# Altium footprint library Antennas.PcbLib: 8 footprints
Each footprint in its own frame and in the unit in brackets; x right, y up, seen from the top. Pads: shape width x height; smd on the part's side, far side on the other; paste and mask are expansions set on the pad; w line width, h text height; cw(c..) or ccw(c..) is an arc to the next point about the centre after c.
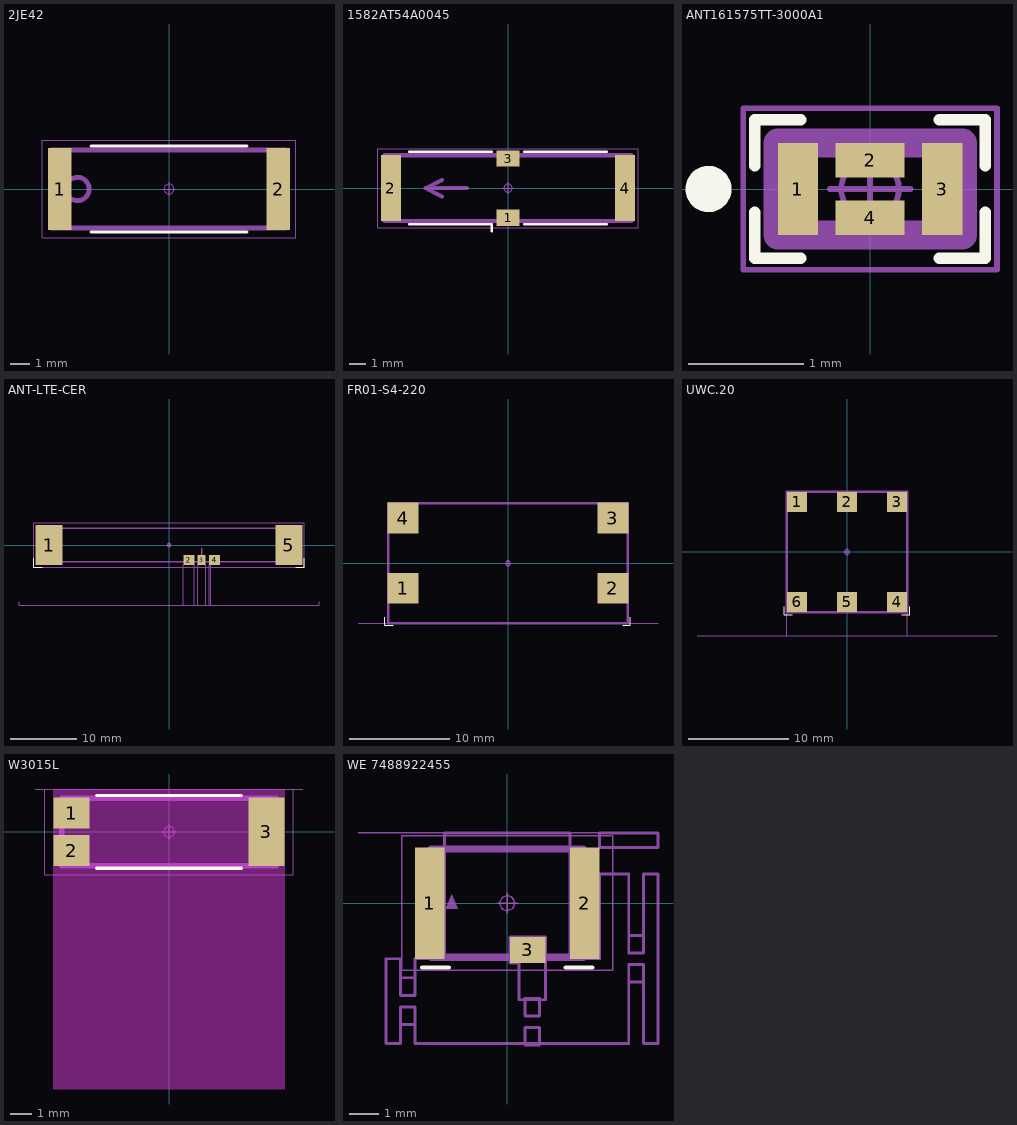
[diagram p0: the footprints below, top view; thin cyan lines are the x and y axes]

## 2JE42 [mm] "915 MHz ISM Surface Mount"
height 1.6
pads (2):
  rect 1.2x4.2 smd: 1(-5.6,0) 2(5.6,0)
Top Overlay:
  lines w0.15: -4,-2.2 4,-2.2 ; -4,2.2 4,2.2
Top Assembly:
  circle w0.25: c-4.7,0 r0.6
  lines w0.25: -6,-2 6,-2 6,2 -6,2 -6,-2
  text ".Designator" at -3.378,-0.339 h1.5
Top Courtyard:
  circle w0.05: c0,0 r0.25
  lines w0.05: -0.35,0 0.35,0 ; 0,-0.35 0,0.35 ; -6.5,-2.5 6.5,-2.5 6.5,2.5 -6.5,2.5 -6.5,-2.5
3D body "2JE42.STEP": height 1.6, standoff 0, extent -6,-2 6,2

## 1582AT54A0045 [mm] "Johanson Technology chip antenna 1582AT54A0045"
height 3.2
pads (4):
  rect 1.4x1 smd: 1(0,-1.8) 3(0,1.8)
  rect 1.2x4 smd: 2(-7.1,0) 4(7.1,0)
Top Overlay:
  lines w0.15: -6,-2.2 -1,-2.2 -1,-2.6 ; -6,2.2 -1,2.2 ; 1,-2.2 6,-2.2 ; 1,2.2 6,2.2
Top Assembly:
  lines w0.25: -4,-0.5 -5,0 ; -4,0.5 -5,0 ; -2.5,0 -5,0 ; -7.5,-2 7.5,-2 7.5,2 -7.5,2 -7.5,-2
  text ".Designator" at -2,-0.518 h1.5
Top Courtyard:
  circle w0.05: c0,0 r0.25
  lines w0.05: -0.35,0 0.35,0 ; 0,-0.35 0,0.35 ; -7.9,-2.4 -7.9,2.4 7.9,2.4 7.9,-2.4 -7.9,-2.4
3D body "1582AT54A0045.STEP": height 3.35, standoff 0, extent -7.55,-2.05 7.55,2.05

## ANT161575TT-3000A1 [mm] "Multilayer Antenna (Triple Band type) for 1574-1577MHz / 2400-2484MHz / 5150-5850MHz"
height 0.4
pads (4):
  rect 0.35x0.8 smd: 1(-0.625,0) 3(0.625,0)
  rect 0.6x0.3 smd: 2(0,0.25) 4(0,-0.25)
Top Overlay:
  circle w0.2: c-1.4,0 r0.1
  lines w0.1: -1,-0.2 -1,-0.6 -0.6,-0.6 ; -1,0.2 -1,0.6 -0.6,0.6 ; 0.6,-0.6 1,-0.6 1,-0.2 ; 0.6,0.6 1,0.6 1,0.2
Top Assembly:
  lines w0.25: -0.8,-0.4 -0.8,0.4 0.8,0.4 0.8,-0.4 -0.8,-0.4
  text ".Designator" at -1.075,0.725 h1
Top Courtyard:
  circle w0.05: c0,0 r0.25
  lines w0.05: -0.35,0 0.35,0 ; 0,-0.35 0,0.35 ; -1.1,-0.7 1.1,-0.7 1.1,0.7 -1.1,0.7 -1.1,-0.7
3D body "ANT161575TT-3000A1.STEP": height 0.4, standoff 0, extent -0.8,-0.4 0.8,0.4

## ANT-LTE-CER [mm] "Linx ANT-LTE-CER"
height 5
pads (5):
  rect 4x6 smd: 1(-18,0) 5(18,0)
  rect 1.65x1.5 smd: 2(2.975,-2.25) 4(6.825,-2.25)
  rect 1.2x1.5 smd: 3(4.9,-2.25)
Top Overlay:
  lines w0.1: -20.3,-2 -20.3,-3.3 -19,-3.3 ; 19,-3.3 20.3,-3.3 20.3,-2
Top Assembly:
  lines w0.25: 4.6,-1.7 4.9,-2.5 ; 4.9,-0.5 4.9,-2.5 ; 5.2,-1.7 4.9,-2.5 ; -18.5,-2.5 18.5,-2.5 18.5,2.5 -18.5,2.5 -18.5,-2.5
  text ".Designator" at -2.55,-0.325 h1.5
Top Courtyard:
  circle w0.05: c0,0 r0.25
  lines w0.05: -22.5,-8.5 -22.5,-9 22.5,-9 22.5,-8.5 ; -0.35,0 0.35,0 ; 0,-0.35 0,0.35 ; 2.15,-9 2.15,-3 ; 3.8,-9 3.8,-3 ; 4.3,-9 4.3,-3 ; 5.5,-9 5.5,-3 ; 6,-9 6,-3 ; 6.3,-9 6.3,-3 ; -20.3,-3.3 -20.3,3.3 20.3,3.3 20.3,-3.3 -20.3,-3.3
3D body "ANT-LTE-CER.STEP": height 5, standoff 0, extent -18.5,-2.5 18.5,2.5

## FR01-S4-220 [mm] "ALL mXTEND FR01-S4-220"
height 2
pads (4):
  rect 3.1x3.1 smd: 1(-10.5,-2.5) 2(10.5,-2.5) 3(10.5,4.5) 4(-10.5,4.5)
Top Overlay:
  lines w0.1: -12.3,-5.4 -12.3,-6.2 -11.5,-6.2 ; 11.5,-6.2 12.2,-6.2 12.2,-5.4
Top Assembly:
  lines w0.25: -12,-6 12,-6 12,6 -12,6 -12,-6
  text ".Designator" at -1.6,-0.275 h1.5
Top Courtyard:
  circle w0.05: c0,0 r0.25
  lines w0.05: -15,-6 15,-6 ; -0.35,0 0.35,0 ; 0,-0.35 0,0.35
3D body "FR01-S4-220.STEP": height 2.05, standoff 0, extent -12,-6 12,6

## UWC.20 [mm] "Taoglas Chip-antenna 12mm x 12mm x 3.3mm, GND plane offset 2.4 mm"
height 3.3
pads (6):
  rect 2x2 smd: 1(-5,5) 2(0,5) 3(5,5) 4(5,-5) 5(0,-5) 6(-5,-5)
Top Overlay:
  lines w0.1: -6.3,-5.5 -6.3,-6.3 -5.5,-6.3 ; 5.5,-6.3 6.3,-6.3 6.3,-5.5
Top Assembly:
  lines w0.25: -6,-6 6,-6 6,6 -6,6 -6,-6
  text ".Designator" at -2,0 h1.5
Top Courtyard:
  circle w0.05: c0,0 r0.25
  lines w0.05: -15,-8.4 15,-8.4 ; -6,-8.4 -6,6 6,6 6,-8.4 ; -0.35,0 0.35,0 ; 0,-0.35 0,0.35
3D body "UWC.20.STEP": height 3.25, standoff 0, extent -6,-6 6,6

## W3015L [mm] "Pulse Chip Antenna 3.15 mm X 10 mm X 4 mm"
height 4
pads (3):
  rect 1.7x1.45 smd: 1(-4.55,0.875) 2(-4.55,-0.875)
  rect 1.7x3.2 smd: 3(4.55,0)
Top Overlay:
  lines w0.15: -3.375,-1.7 3.375,-1.7 ; -3.375,1.7 3.375,1.7
Keep-Out Layer:
  region: -5.4,-12 -5.4,2 5.4,2 5.4,-12
Top Assembly:
  lines w0.25: -5,-1.575 5,-1.575 5,1.575 -5,1.575 -5,-1.575
  text ".Designator" at -3.1,-0.118 h1.5
Top Courtyard:
  circle w0.05: c0,0 r0.25
  lines w0.05: -0.35,0 0.35,0 ; 0,-0.35 0,0.35 ; -6.25,2 -5.8,2 ; -6.25,2 -6.25,2 ; -5.8,2 5.8,2 ; -5.8,2 -5.8,-2 5.8,-2 5.8,2 ; 5.8,2 6.25,2 ; 6.25,2 6.25,2
3D body "W3015L.STEP": height 4, standoff 0, extent -5,-1.575 5,1.575

## WE 7488922455 [mm] "WE-MCA Multilayer Chip Antenna"
pads (3):
  rect 1x3.8 smd: 1(-2.65,0) 2(2.65,0)
  rect 1.2x0.9 smd: 3(0.7,-1.6)
Top Overlay:
  lines w0.15: -2.9,-2.2 -2,-2.2 ; 2,-2.2 2.9,-2.2
Top Assembly:
  region: -2.1,-0.2 -1.9,0.3 -1.7,-0.2
  lines w0.25: -2.6,-1.85 2.6,-1.85 2.6,1.85 -2.6,1.85 -2.6,-1.85
  text ".Designator" at -3.378,-0.339 h1.5
Top Courtyard:
  circle w0.05: c0,0 r0.25
  lines w0.05: -5.1,2.4 5.1,2.4 ; -0.35,0 0.35,0 ; 0,-0.35 0,0.35 ; -3.6,-2.3 3.6,-2.3 3.6,2.3 -3.6,2.3 -3.6,-2.3
AntennaClearance:
  lines w0.1: -3.65,-4.15 -3.65,-3.55 -3.15,-3.55 -3.15,-4.15 ; -3.65,-4.15 -3.65,-4.8 -4.15,-4.8 -4.15,-1.9 -3.65,-1.9 -3.65,-2.55 ; -3.65,-4.15 -3.15,-4.15 ; -3.65,-2.55 -3.15,-2.55 ; -3.65,-2.55 -3.65,-3.15 -3.15,-3.15 -3.15,-2.55 ; -3.15,-4.15 -3.15,-4.8 4.15,-4.8 4.15,-2.7 ; -3.15,-2.55 -3.15,-1.9 -2.15,-1.9 -2.15,2.4 2.15,2.4 2.15,-1.9 3.15,-1.9 3.15,1 4.15,1 4.15,-1.1 ; 4.15,-2.7 4.65,-2.7 ; 4.15,-2.7 4.15,-2.1 4.65,-2.1 4.65,-2.7 ; 4.15,-1.1 4.65,-1.1 ; 4.15,-1.1 4.15,-1.7 4.65,-1.7 4.65,-1.1 ; 4.65,-2.7 4.65,-4.8 5.15,-4.8 5.15,1 4.65,1 4.65,-1.1 ; 0.1,-2.05 0.4,-2.05 0.4,-3.3 1.3,-3.3 1.3,-1.15 0.1,-1.15 0.1,-2.05 ; 0.6,-4.85 1.1,-4.85 1.1,-4.25 0.6,-4.25 0.6,-4.85 ; 0.6,-3.85 1.1,-3.85 1.1,-3.25 0.6,-3.25 0.6,-3.85 ; 3.15,1.9 5.15,1.9 5.15,2.4 3.15,2.4 3.15,1.9
3D body "Step_7488922455_WE-MCA (rev1).stp": height 0.71, standoff 0.01, extent -2.6,-1.85 2.6,1.85